# Altium footprint library CL31B106KAHVPNE.PcbLib: 3 footprints
Each footprint in its own frame and in the unit in brackets; x right, y up, seen from the top. Pads: shape width x height; smd on the part's side, far side on the other; paste and mask are expansions set on the pad; w line width, h text height; cw(c..) or ccw(c..) is an arc to the next point about the centre after c.
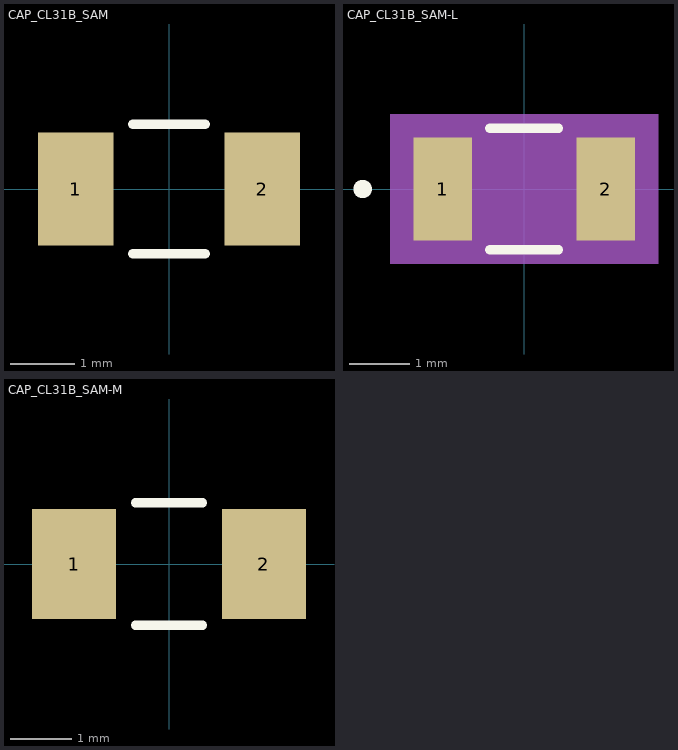
[diagram p0: the footprints below, top view; thin cyan lines are the x and y axes]

## CAP_CL31B_SAM [mil]
pads (2):
  rect 46x69 smd paste+0 mask+0: 1(-57,0) 2(57,0)
Top Overlay:
  lines w6: -21.89,-39.5 21.89,-39.5 ; -21.89,39.5 21.89,39.5
3D body "CAP_CL31B_SAM.step": height 55, standoff 0, extent -65.98,-34.49 65.98,34.49

## CAP_CL31B_SAM-L [mil]
pads (2):
  rect 38x67 smd paste+0 mask+0: 1(-53,0) 2(53,0)
Top Overlay:
  circle w6: c-105,0 r3
  lines w6: -22.35,-39.5 22.35,-39.5 ; -22.35,39.5 22.35,39.5
Mechanical 5:
  region: 87,-48.5 -87,-48.5 -87,48.5 87,48.5
Mechanical 13:
  circle w0: c-48,0 r3
  lines w1: -66,-34.5 -66,34.5 ; -66,-34.5 -34,-34.5 -34,34.5 -66,34.5 ; -66,-34.5 66,-34.5 ; -66,-34.5 -66,34.5 ; -66,34.5 66,34.5 ; 66,-34.5 34,-34.5 34,34.5 66,34.5 ; 66,-34.5 66,34.5 ; 66,-34.5 66,34.5
Mechanical 15:
  region: 76,-37.5 -76,-37.5 -76,37.5 76,37.5
  lines w6: -76,-37.5 -76,37.5 76,37.5 76,-37.5 -76,-37.5
3D body "CAP_CL31B_SAM.step": height 55, standoff 0, extent -65.98,-34.49 65.98,34.49

## CAP_CL31B_SAM-M [mil]
pads (2):
  rect 54x71 smd paste+0 mask+0: 1(-61,0) 2(61,0)
Top Overlay:
  lines w6: -21.53,-39.5 21.53,-39.5 ; -21.53,39.5 21.53,39.5
Mechanical 13:
  circle w0: c-56,0 r3
3D body "CAP_CL31B_SAM.step": height 55, standoff 0, extent -65.98,-34.49 65.98,34.49